# EAGLE library part DMMT5401 (library pimoroni-ics)
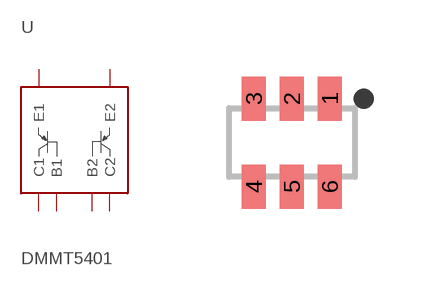
[diagram p47: symbol with the pads of SOT-23-6; footprint SOT-23-6]

Designator prefix -

## DMMT5401  [SOT-23-6]
1  C1
2  B1
3  B2
4  C2
5  E2
6  E1

## Footprint SOT-23-6 (pad centres in mm)
smd 0.6 x 1.1: 1 0.95,1.1; 2 0,1.1; 3 -0.95,1.1; 4 -0.95,-1.1; 5 0,-1.1; 6 0.95,-1.1